# Altium footprint library ADI-CP-56-1_L.PcbLib: 1 footprints
Each footprint in its own frame and in the unit in brackets; x right, y up, seen from the top. Pads: shape width x height; smd on the part's side, far side on the other; paste and mask are expansions set on the pad; w line width, h text height; cw(c..) or ccw(c..) is an arc to the next point about the centre after c.
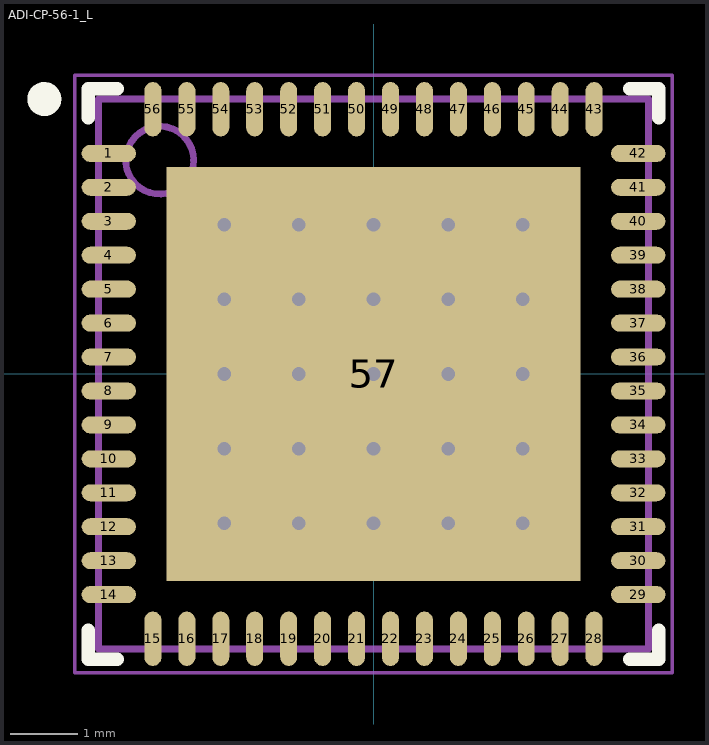
[diagram p0: the footprint, top view; thin cyan lines are the x and y axes]

## ADI-CP-56-1_L [mm] "QFN, 56-Leads, Body 8x8mm, Pitch 0.5mm, Thermal Pad 6.1x6.1mm, IPC High Density"
height 1
pads (57):
  oval 0.8x0.25 smd: 1(-3.9,3.25) 2(-3.9,2.75) 3(-3.9,2.25) 4(-3.9,1.75) 5(-3.9,1.25) 6(-3.9,0.75) 7(-3.9,0.25) 8(-3.9,-0.25) 9(-3.9,-0.75) 10(-3.9,-1.25) 11(-3.9,-1.75) 12(-3.9,-2.25) 13(-3.9,-2.75) 14(-3.9,-3.25) 29(3.9,-3.25) 30(3.9,-2.75) 31(3.9,-2.25) 32(3.9,-1.75) 33(3.9,-1.25) 34(3.9,-0.75) 35(3.9,-0.25) 36(3.9,0.25) 37(3.9,0.75) 38(3.9,1.25) 39(3.9,1.75) 40(3.9,2.25) 41(3.9,2.75) 42(3.9,3.25)
  oval 0.25x0.8 smd: 15(-3.25,-3.9) 16(-2.75,-3.9) 17(-2.25,-3.9) 18(-1.75,-3.9) 19(-1.25,-3.9) 20(-0.75,-3.9) 21(-0.25,-3.9) 22(0.25,-3.9) 23(0.75,-3.9) 24(1.25,-3.9) 25(1.75,-3.9) 26(2.25,-3.9) 27(2.75,-3.9) 28(3.25,-3.9) 43(3.25,3.9) 44(2.75,3.9) 45(2.25,3.9) 46(1.75,3.9) 47(1.25,3.9) 48(0.75,3.9) 49(0.25,3.9) 50(-0.25,3.9) 51(-0.75,3.9) 52(-1.25,3.9) 53(-1.75,3.9) 54(-2.25,3.9) 55(-2.75,3.9) 56(-3.25,3.9)
  rect 6.1x6.1 smd: 57(0,0)
via 2.2,-2.2 diameter 0.5 hole 0.2
via 1.1,-2.2 diameter 0.5 hole 0.2
via 0,-2.2 diameter 0.5 hole 0.2
via -1.1,-2.2 diameter 0.5 hole 0.2
via -2.2,-2.2 diameter 0.5 hole 0.2
via 2.2,-1.1 diameter 0.5 hole 0.2
via 1.1,-1.1 diameter 0.5 hole 0.2
via 0,-1.1 diameter 0.5 hole 0.2
via -1.1,-1.1 diameter 0.5 hole 0.2
via -2.2,-1.1 diameter 0.5 hole 0.2
via 2.2,0 diameter 0.5 hole 0.2
via 1.1,0 diameter 0.5 hole 0.2
via 0,0 diameter 0.5 hole 0.2
via -1.1,0 diameter 0.5 hole 0.2
via -2.2,0 diameter 0.5 hole 0.2
via 2.2,1.1 diameter 0.5 hole 0.2
via 1.1,1.1 diameter 0.5 hole 0.2
via 0,1.1 diameter 0.5 hole 0.2
via -1.1,1.1 diameter 0.5 hole 0.2
via -2.2,1.1 diameter 0.5 hole 0.2
via 2.2,2.2 diameter 0.5 hole 0.2
via 1.1,2.2 diameter 0.5 hole 0.2
via 0,2.2 diameter 0.5 hole 0.2
via -1.1,2.2 diameter 0.5 hole 0.2
via -2.2,2.2 diameter 0.5 hole 0.2
Top Overlay:
  circle w0.25: c-4.85,4.05 r0.125
  lines w0.2: -4.2,-3.775 -4.2,-4.2 -3.775,-4.2 ; -4.2,3.775 -4.2,4.2 -3.775,4.2 ; 3.775,-4.2 4.2,-4.2 4.2,-3.775 ; 3.775,4.2 4.2,4.2 4.2,3.775
Mechanical 13:
  circle w0.1: c-3.15,3.15 r0.5
  lines w0.1: -4.05,-4.05 4.05,-4.05 4.05,4.05 -4.05,4.05 -4.05,-4.05
Mechanical 15:
  lines w0.05: -4.4,-4.4 4.4,-4.4 4.4,4.4 -4.4,4.4 -4.4,-4.4
  lines w0.1: -0.5,0 0.5,0 ; 0,-0.5 0,0.5
3D body: height 1, standoff 0, extent -4.05,-4.05 4.05,4.05